# EAGLE library part M2022LL2W13 (library switch)
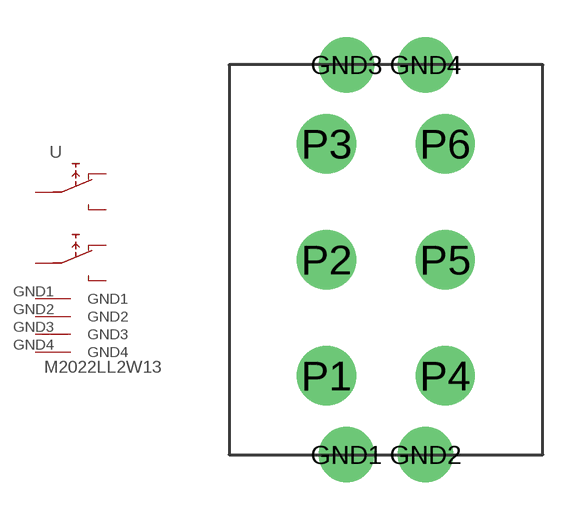
[diagram p0: symbol with the pads of M2022LL2W13; footprint M2022LL2W13]

Designator prefix -

## M2022LL2W13  [M2022LL2W13]
GND1  GND1
GND2  GND2
GND3  GND3
GND4  GND4
P1  NO  pas
P2  1A  pas
P3  NC  pas
P4  NO1  pas
P5  1A1  pas
P6  NC1  pas

## Footprint M2022LL2W13 (pad centres in mm)
drill 1.5: GND1 -1.6,-7.9; GND2 1.6,-7.9; GND3 -1.6,7.9; GND4 1.6,7.9
drill 1.6: P1 -2.4,-4.7; P2 -2.4,0; P3 -2.4,4.7; P4 2.4,-4.7; P5 2.4,0; P6 2.4,4.7